# Altium footprint library Passives.PcbLib: 3 footprints
Each footprint in its own frame and in the unit in brackets; x right, y up, seen from the top. Pads: shape width x height; smd on the part's side, far side on the other; paste and mask are expansions set on the pad; w line width, h text height; cw(c..) or ccw(c..) is an arc to the next point about the centre after c.
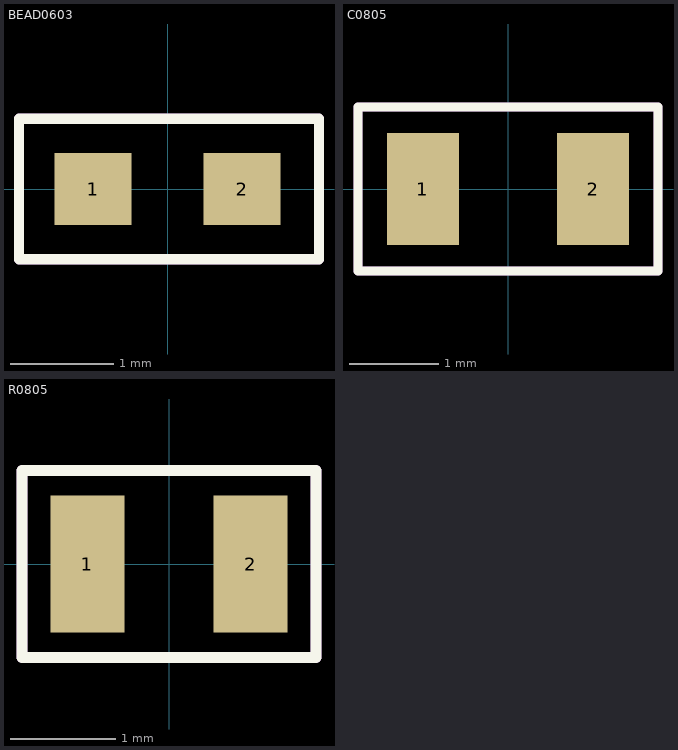
[diagram p0: the footprints below, top view; thin cyan lines are the x and y axes]

## BEAD0603 [mm]
pads (2):
  rect 0.75x0.7 smd: 1(-0.725,0) 2(0.725,0)
Top Overlay:
  lines w0.102: -1.448,-0.686 -1.448,0.686 1.473,0.686 1.473,-0.686 -1.448,-0.686
Assembly:
  lines w0.102: -1.448,-0.686 1.473,-0.686 1.473,0.686 -1.448,0.686 -1.448,-0.686
  text "'.Designator'" at -0.889,-0.254 h0.51
3D body "WE-CBF_0603_CBF (rev1).stp": height 0.81, standoff 0.01, extent -0.8,-0.4 0.8,0.4

## C0805 [mm]
pads (2):
  rect 0.8x1.25 smd mask+0.102: 1(-0.95,0) 2(0.95,0)
Top Overlay:
  lines w0.102: -1.676,-0.914 1.676,-0.914 1.676,0.914 -1.676,0.914 -1.676,-0.914
Assembly:
  lines w0.102: -1.676,-0.914 -1.676,0.914 1.676,0.914 1.676,-0.914 -1.676,-0.914
  text "'.Designator'" at -0.889,-0.254 h0.5
3D body "C805.STEP": height 0.74, standoff -0.02, extent -1,-0.655 1,0.655

## R0805 [mm]
pads (2):
  rect 0.7x1.3 smd: 1(-0.775,0) 2(0.775,0)
Top Overlay:
  lines w0.102: -1.397,-0.889 1.397,-0.889 1.397,0.889 -1.397,0.889 -1.397,-0.889
Assembly:
  lines w0.102: -1.397,-0.889 -1.397,0.889 1.397,0.889 1.397,-0.889 -1.397,-0.889
  text "'.Designator'" at -0.889,-0.254 h0.51
3D body "RES_2013-0805.step": height 0.77, standoff 0.01, extent -1.15,-0.675 1.15,0.675